# EAGLE library part MY_CLOCK_LIB_COMPONENTS_10_CH330N (library watch_pcb_lib)
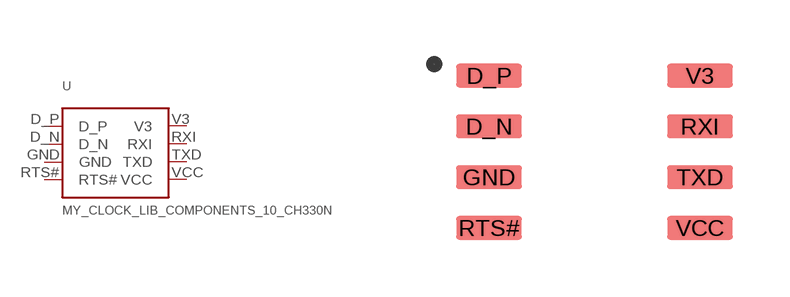
[diagram p3: symbol with the pads of MY_CLOCK_LIB_COMPONENTS_10_CH330N; footprint MY_CLOCK_LIB_COMPONENTS_10_CH330N]

Designator prefix -

## MY_CLOCK_LIB_COMPONENTS_10_CH330N  [MY_CLOCK_LIB_COMPONENTS_10_CH330N]
D_N  D_N
D_P  D_P
GND  GND  pwr
RTS#  RTS#
RXI  RXI
TXD  TXD
V3  V3  pwr
VCC  VCC  pwr

## Footprint MY_CLOCK_LIB_COMPONENTS_10_CH330N (pad centres in mm)
smd 1.64 x 0.59: D_N -2.635,0.635; D_P -2.635,1.905; GND -2.635,-0.635; RTS# -2.635,-1.905; RXI 2.635,0.635; TXD 2.635,-0.635; V3 2.635,1.905; VCC 2.635,-1.905